# EAGLE library part CM1624-08DE (library CM1624-08DE)
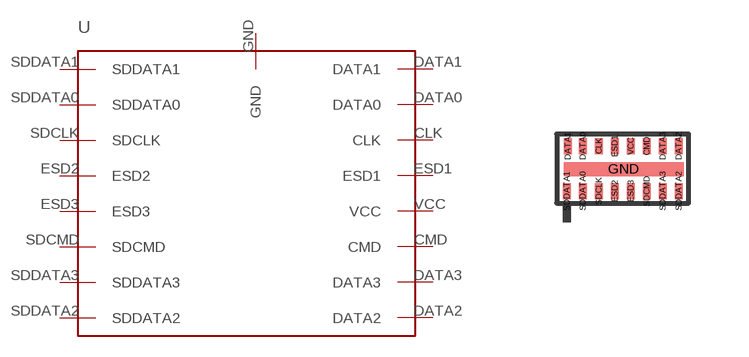
[diagram p0: symbol with the pads of CM1624-08DE; footprint CM1624-08DE]

Designator prefix -

## CM1624-08DE  [CM1624-08DE]
CLK  CLK
CMD  CMD
DATA0  DATA0
DATA1  DATA1
DATA2  DATA2
DATA3  DATA3
ESD1  ESD1
ESD2  ESD2
ESD3  ESD3
GND  GND
SDCLK  SDCLK
SDCMD  SDCMD
SDDATA0  SDDATA0
SDDATA1  SDDATA1
SDDATA2  SDDATA2
SDDATA3  SDDATA3
VCC  VCC

## Footprint CM1624-08DE (pad centres in mm)
smd 0.2 x 0.4: CLK 1.075,1.3; CMD 2.275,1.3; DATA0 0.675,1.3; DATA1 0.3,1.3; DATA2 3.075,1.3; DATA3 2.675,1.3; ESD1 1.475,1.3; ESD2 1.475,0.175; ESD3 1.875,0.175; SDCLK 1.075,0.175; SDCMD 2.275,0.175; SDDATA0 0.675,0.175; SDDATA1 0.275,0.175; SDDATA2 3.075,0.175; SDDATA3 2.675,0.175; VCC 1.875,1.3
smd 3 x 0.35: GND 1.7,0.725